# Altium schematic symbol library UHD111A_LED.SchLib: 1 symbol
Pins are listed as number, name and electrical type; pins without a type are passive.

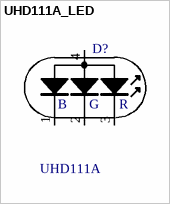
[diagram p0: symbol UHD111A_LED]

## UHD111A_LED
designator D?, comment UHD111A
LED RGB SMD
footprint Cree UHD111A (UHD111A, 4-Leads, Body 1,00x1,00mm, Pitch 0,66mm, IPC Medium Density)
pins: 1, 2, 3, 4 C
text: B; G; R